# Altium schematic symbol library Kanaloa_v2.0.0_Loko.SchLib: 6 symbols
Pins are listed as number, name and electrical type; pins without a type are passive.

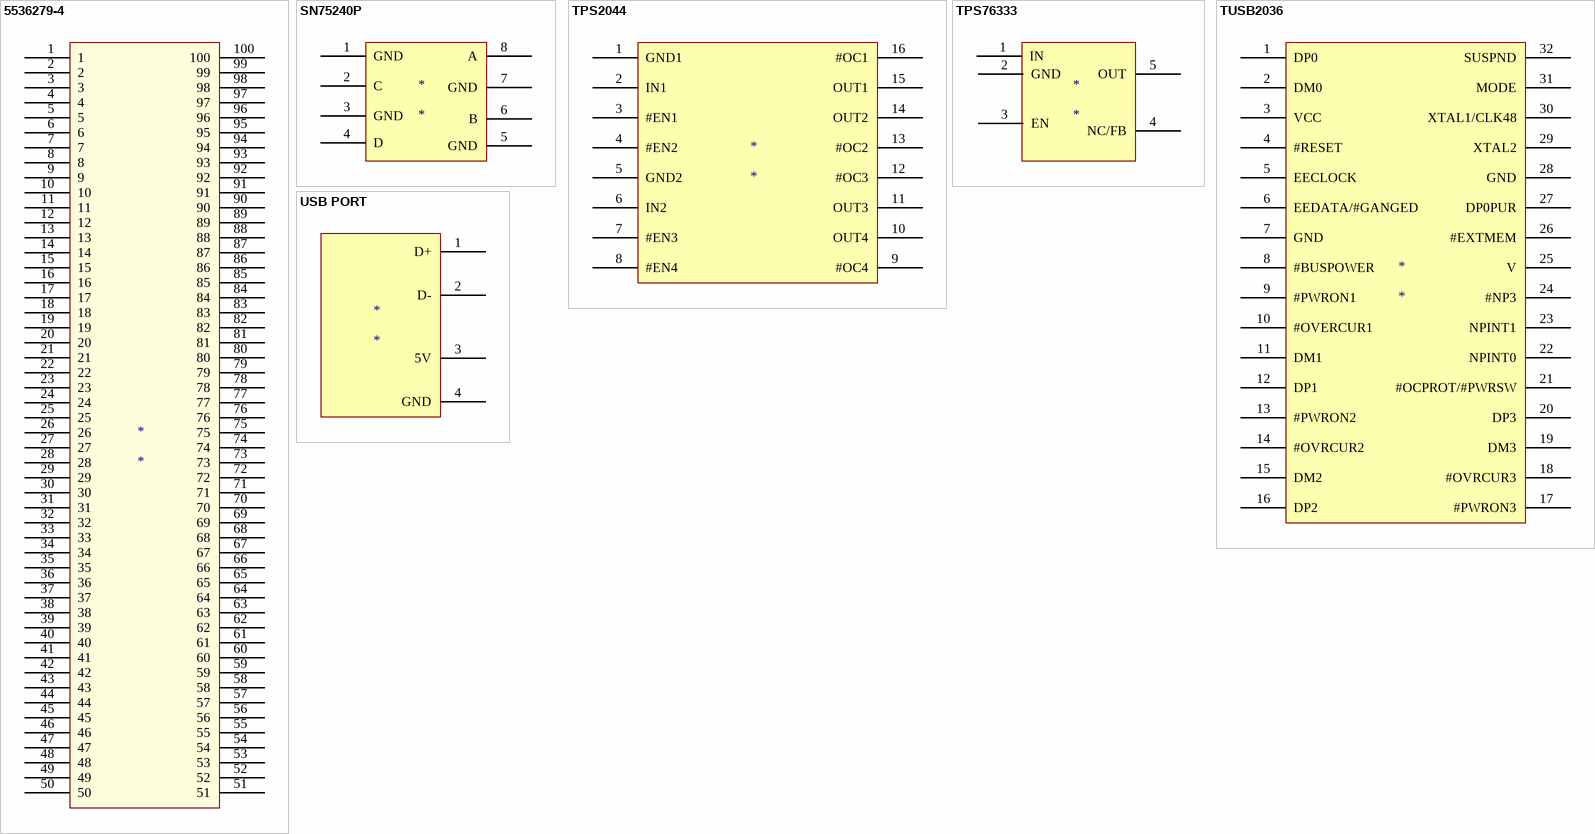
[diagram p0: symbols 5536279-4 to USB PORT]

## 5536279-4
designator *
female
pins: 1, 2, 3, 4, 5, 6, 7, 8, 9, 10, 11, 12, 13, 14, 15, 16, 17, 18, 19, 20, 21, 22, 23, 24, 25, 26, 27, 28, 29, 30, 31, 32, 33, 34, 35, 36, 37, 38, 39, 40, 41, 42, 43, 44, 45, 46, 47, 48, 49, 50, 51, 52, 53, 54, 55, 56, 57, 58, 59, 60, 61, 62, 63, 64, 65, 66, 67, 68, 69, 70, 71, 72, 73, 74, 75, 76, 77, 78, 79, 80, 81, 82, 83, 84, 85, 86, 87, 88, 89, 90, 91, 92, 93, 94, 95, 96, 97, 98, 99, 100

## SN75240P
designator *
pins: 1 GND, 2 C, 3 GND, 4 D, 5 GND, 6 B, 7 GND, 8 A

## TPS2044
designator *
pins: 1 GND1, 2 IN1, 3 #EN1, 4 #EN2, 5 GND2, 6 IN2, 7 #EN3, 8 #EN4, 9 #OC4, 10 OUT4, 11 OUT3, 12 #OC3, 13 #OC2, 14 OUT2, 15 OUT1, 16 #OC1

## TPS76333
designator *
pins: 1 IN, 2 GND, 3 EN, 4 NC/FB, 5 OUT

## TUSB2036
designator *
footprint TUSB2036 (USB HUB Controller IC (TI))
pins: 1 DP0, 2 DM0, 3 VCC, 4 #RESET, 5 EECLOCK, 6 EEDATA/#GANGED, 7 GND, 8 #BUSPOWER, 9 #PWRON1, 10 #OVERCUR1, 11 DM1, 12 DP1, 13 #PWRON2, 14 #OVRCUR2, 15 DM2, 16 DP2, 17 #PWRON3, 18 #OVRCUR3, 19 DM3, 20 DP3, 21 #OCPROT/#PWRSW, 22 NPINT0, 23 NPINT1, 24 #NP3, 25 V, 26 #EXTMEM, 27 DP0PUR, 28 GND, 29 XTAL2, 30 XTAL1/CLK48, 31 MODE, 32 SUSPND

## USB PORT
designator *
pins: 1 D+, 2 D-, 3 5V, 4 GND